# Altium schematic symbol library TK4K1A60F_S4X.SchLib: 1 symbol
Pins are listed as number, name and electrical type; pins without a type are passive.

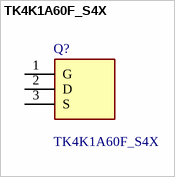
[diagram p0: symbol TK4K1A60F_S4X]

## TK4K1A60F_S4X
designator Q?
Pb-F POWER MOSFET TRANSISTOR TO-220SIS PD=30W F=1MHZ; Manufacturer_Name: Toshiba; Manufacturer_Part_Number: TK4K1A60F,S4X; Geometry.Height: 4.7mm; Mouser Part Number: 757-TK4K1A60FS4X; Mouser Price/Stock: https://www.mouser.co.uk/ProductDetail/Toshiba/TK4K1A60FS4X?qs=d0WKAl%252BL4Kbu96S36EMnhw%3D%3D; Datasheet Link: https://www.mouser.fr/datasheet/2/408/TK4K1A60F_datasheet_en_20180925-1634495.pdf
footprint TO254P470X1000X1870-3P
pins: 1 G, 2 D, 3 S